# EAGLE library part VICOR-DCM4623TD2H31E0T00-500W-DCDC (library ClintonLib)
500W Isolated DC-DC Converter, 200V-420V In, 28V Out (Trimmable 16.8V-30.8V) Height above board = 7.21mm [.284"] OCP, OTP, OVP, SCP, UVLO Please add a 5A-rated PC-Tron fuse on the input and a Keystone 3568 socket on the output. The 5A PC-Tron has the highest I2T, and is the UL-approved fuse. During first 140ms or so, Iout must be under 1.78A. Consider an Omron G5LE-1-E-DC5 <https://www.mouser.com/ProductDetail/Omron-Electronics/G5LE-1-E-DC5?qs=sGAEpiMZZMtSzCF3XBhmW5YviC6vHEwtrutFXA90M9w%3d> or G2RL-14-E-DC5 <https://www.mouser.com/ProductDetail/Omron-Electronics/G2RL-14-E-DC5?qs=%2fha2pyFaduhkxlrBGGX6cmDi30bHcV4qUbXg9vD896Q%3d> for a relay. Some workable control IC DC-DC's <https://www.digikey.com/products/en/power-supplies-board-mount/dc-dc-converters/922?FV=8f40064%2C8f40067%2C8f4006c%2C8f40088%2C8f40093%2C8f40010%2C8f400a2%2C8f400a3%2C8f400a4%2C8f40011%2C8f400ab%2C8f400ac%2C8f40012%2C8f40013%2C8f400f3%2C8f40019%2C8f4001b%2C8f40131%2C8f40146%2C8f40149%2C8f40021%2C8f40022%2C8f4002a%2C8f40031%2C8f40034%2C8f40035%2C8f40039%2C8f4003e%2C8f40043%2C17d400ac%2C17d400ef%2C17d40100%2C17d40214%2C17d40036%2C17d40239%2C17d4003e%2Cii1%7C2211%2Cffe0039a&quantity=1&ColumnSort=1000011&page=1&stock=1&pageSize=25>. The board will need some (micro)controller that can enable an output relay after this delay, and ideally some pinned out current output measurement capability, such as a TI INA19xA-Q1 <http://www.ti.com/lit/ds/symlink/ina193a-q1.pdf> (or something marginally cheaper). An Inland or Keyes brand Pro Mini clone ($4) would be the easiest microcontroller, but you'd need an FTDI ($15) or e.g. CP2104 ($6) programmer. Alternatively, a 32u4 board is $20ish. Digikey <https://www.digikey.com/product-detail/en/vicor-corporation/DCM4623TD2H31E0T00/1102-5617-ND/7320872> Datasheet <http://www.vicorpower.com/documents/datasheets/DCM4623xD2H31E0yzz_ds.pdf>
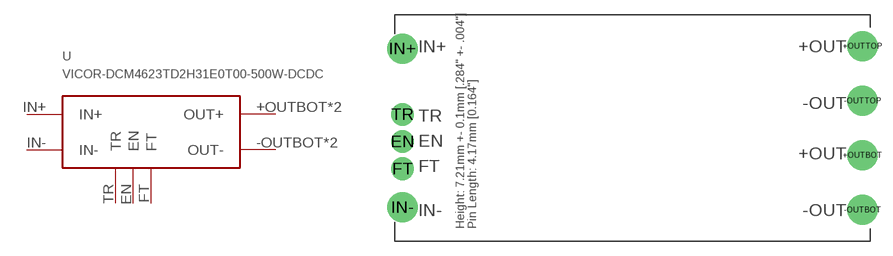
[diagram p16: symbol with the pads of VICOR-DCM4623TD2H31E0T00-500W-DCDC; footprint VICOR-DCM4623TD2H31E0T00-500W-DCDC]

Designator prefix -

## VICOR-DCM4623TD2H31E0T00-500W-DCDC (HEIGHT: 7.21)  [VICOR-DCM4623TD2H31E0T00-500W-DCDC]
+OUTBOT  OUT+
+OUTTOP  OUT+
-OUTBOT  OUT-
-OUTTOP  OUT-
EN  EN
FT  FT
IN+  IN+
IN-  IN-
TR  TR

## Footprint VICOR-DCM4623TD2H31E0T00-500W-DCDC (pad centres in mm)
4623 ChiP Package Digikey <https://www.digikey.com/product-detail/en/vicor-corporation/DCM4623TD2H31E0T00/1102-5617-ND/7320872> Datasheet <http://www.vicorpower.com/documents/datasheets/DCM4623xD2H31E0yzz_ds.pdf>
drill 2.032: +OUTBOT 23.19,-2.743; +OUTTOP 23.19,8.255; -OUTBOT 23.19,-8.255; -OUTTOP 23.19,2.743; IN+ -23.19,8.001; IN- -23.19,-8.001
drill 1.524: EN -23.19,-1.372; FT -23.19,-4.115; TR -23.19,1.372